# EAGLE library part 418121160803 (library WS-DISV)
WS-DISV Small Compact SMT Flat Actuator with Top Tape 2.54 mm Material Properties Cover Material PPA Cover Flammability Rating UL94 V-0 Base Material PPA Base Flammability Rating UL94 V-0 Actuator Material PA46; co Actuator Flammability Rating UL94 V-0 Contact Plating Gold Terminal Plating Gold General Information Operating Temperature -40 °C up to +85 °C Washable Yes Electrical Properties IR 100 mA VR 50 V (DC) Contact Resistance Initial 50 mΩ RISO 100 MΩ Withstanding Voltage 500 V (AC) Mechanical Properties Operation Force (Value) 600 g Electrical Life 2000 Times Actuator Type Flat Type Switch Position Off Packaging Properties Packaging Tape and Reel <https://www.we-online.com/components/media/o64617v209%20Family_WS-DISV_4181211608xxA.jpg> Details see: www.we-online.com/en/components/products/DISV_2_54_SMALL_COMPACT_SMD_FLAT_ACTUATOR <www.we-online.com/catalog/DISV_2_54_SMALL_COMPACT_SMD_FLAT_ACTUATOR/?utm_source=eagle_model&utm_medium=description_link&utm_campaign=eisos_eagle> Updated by Ella 2024-05-28 2024 (C) Würth Elektronik
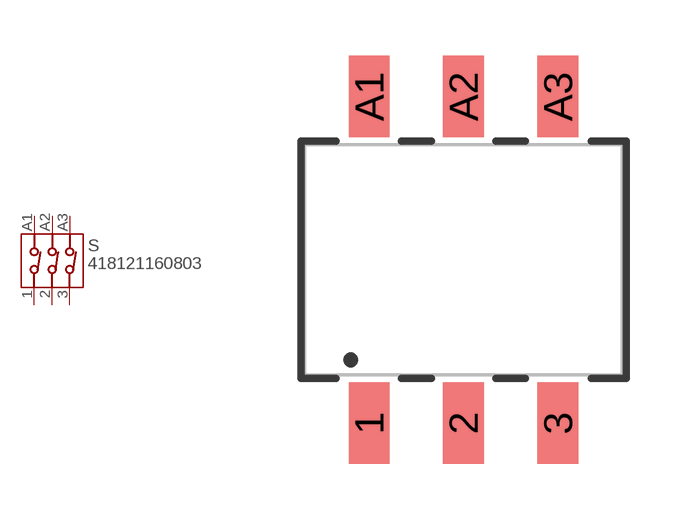
[diagram p13: symbol with the pads of 418121160803; footprint 418121160803]

Designator prefix S

## 418121160803 (DATASHEET-URL: https://www.we-online.com/redexpert/spec/418121160803?ae; LENGTH: 8.56mm; MOUNT: SMT; PART-NUMBER: 418121160803; PITCH: 2.54mm; POLES: 3; VALUE: 418121160803; VAPORPHASE-PROCESS: Yes)  [418121160803]
1  1  pas
2  2  pas
3  3  pas
A1  A1  pas
A2  A2  pas
A3  A3  pas

## Footprint 418121160803 (pad centres in mm)
WS-DISV Small Compact SMT Flat Actuator with Top Tape 2.54 mm ,3 poles
smd 1.1 x 2.2: 1 -2.54,-4.4; 2 0,-4.4; 3 2.54,-4.4; A1 -2.54,4.4; A2 0,4.4; A3 2.54,4.4